# EAGLE library part GKRAM (library 029000100  -  gKEagleLibrary)
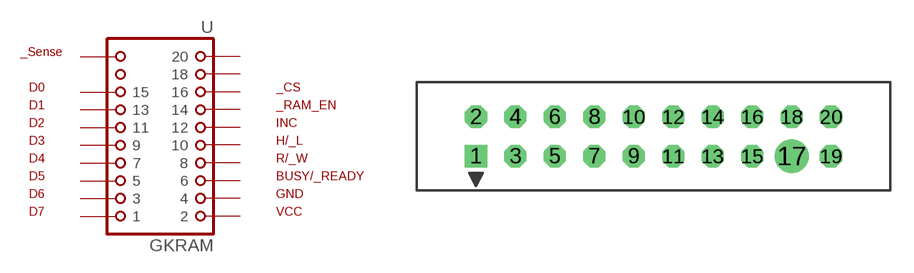
[diagram p16: symbol with the pads of GKRAM; footprint GKRAM]

Designator prefix -

## GKRAM  [GKRAM]
1  1  pas
2  2  pas
3  3  pas
4  4  pas
5  5  pas
6  6  pas
7  7  pas
8  8  pas
9  9  pas
10  10  pas
11  11  pas
12  12  pas
13  13  pas
14  14  pas
15  15  pas
16  16  pas
17  17  nc
18  18  pas
19  19  pas
20  20  pas

## Footprint GKRAM (pad centres in mm)
drill 0.914 square: 1 0,2.54
drill 0.914 octagon: 2 0,5.08; 3 2.54,2.54; 4 2.54,5.08; 5 5.08,2.54; 6 5.08,5.08; 7 7.62,2.54; 8 7.62,5.08; 9 10.16,2.54; 10 10.16,5.08; 11 12.7,2.54; 12 12.7,5.08; 13 15.24,2.54; 14 15.24,5.08; 15 17.78,2.54; 16 17.78,5.08; 18 20.32,5.08; 19 22.86,2.54; 20 22.86,5.08
drill 0.914 pad 2.184: 17 20.32,2.54